# Altium schematic symbol library Ixys.SchLib: 1 symbol
Pins are listed as number, name and electrical type; pins without a type are passive.

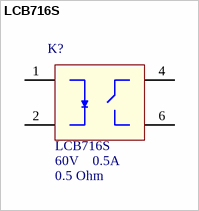
[diagram p0: symbol LCB716S]

## LCB716S
designator K?  Ron: 0.5 Ohm  Current: 0.5A  Voltage: 60V  (hidden comment: LCB716S)
SSR RELAY SPST-NC 500MA 0-60V; Manufacturer: Ixys; PartNumber: LCB716S
footprint SMD6 (Footprint not found)
pins: 1, 2, 4, 6